# EAGLE library part 687120182122 (library Eagle_FPC_CONNECTOR_AND_FFC_CAB (rev18c))
CONFPCI - 0.5 MM PITCH HORIZONTAL DUAL CONTACT, BACK FLIP ACTUATOR=>Code : ConFPC-687120182122 Characteristics INSULATOR: LCP FLAMABILITY RATING: UL94-V0 COLOUR: IVORY CONTACT MATERIAL: PHOSPHOR BRONZE CONTACT PLATING: 80 μ’’ MAT TIN OVER 50 μ’’ NICKEL CONTACT TYPE: STAMPED TAB MATERIAL: BRASS TAB PLATING: 80 μ’’ MAT TIN OVER 50 μ’’ NICKEL TAB TYPE: STAMPED ACTUATOR MATERIAL: PA9T ACTUATOR COLOUR: BLACK QUALITY CLASS: 20 MATING CYCLES PITCH: 0.50 MM PACKAGING:TAPE AND REEL COMPLIANCE: ROHS AND HALOGEN FREE OPERATING TEMPERATURE: -40°C UP TO +105°C ELECTRICAL CURRENT RATING: 0.5A WORKING VOLTAGE: 50 VAC WITHSTANDING VOLTAGE: 0.25 KVAC/min CONTATC RESISTANCE: 30 mOHM INSULATION RESISTANCE: >500 MΩ <http://katalog.we-online.de/media/images/v2/Family_WR-FPC_687186182122.jpg> Details see: http://katalog.we-online.de/en/em/FPC_0_5_SMT_ZIF_HORIZONTAL_DUAL_CONTACT_BACK_LOCKING_6871XX182122 2015 (C) Wurth Elektronik
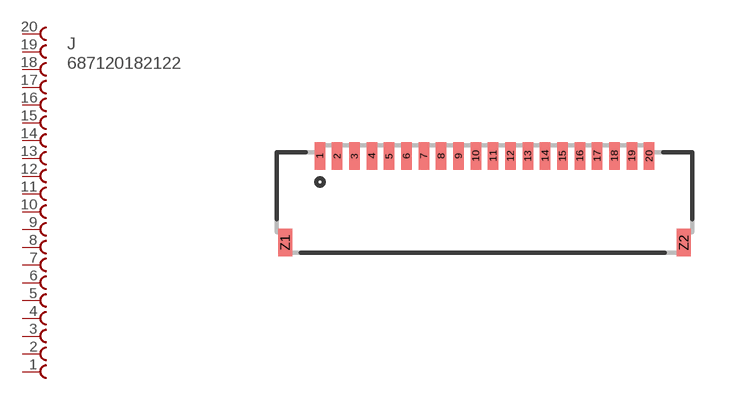
[diagram p135: symbol with the pads of 687120182122; footprint 687120182122]

Designator prefix J

## 687120182122  [687120182122]
1  20  pas
2  19  pas
3  18  pas
4  17  pas
5  16  pas
6  15  pas
7  14  pas
8  13  pas
9  12  pas
10  11  pas
11  10  pas
12  9  pas
13  8  pas
14  7  pas
15  6  pas
16  5  pas
17  4  pas
18  3  pas
19  2  pas
20  1  pas

## Footprint 687120182122 (pad centres in mm)
smd 0.3 x 0.8: 1 -4.75,1.25; 2 -4.25,1.25; 3 -3.75,1.25; 4 -3.25,1.25; 5 -2.75,1.25; 6 -2.25,1.25; 7 -1.75,1.25; 8 -1.25,1.25; 9 -0.75,1.25; 10 -0.25,1.25; 11 0.25,1.25; 12 0.75,1.25; 13 1.25,1.25; 14 1.75,1.25; 15 2.25,1.25; 16 2.75,1.25; 17 3.25,1.25; 18 3.75,1.25; 19 4.25,1.25; 20 4.75,1.25
smd 0.4 x 0.8: Z1 -5.75,-1.25; Z2 5.75,-1.25